# Altium footprint library XCVR_ESP32-C3-DEVKITC-02.PcbLib: 1 footprints
Each footprint in its own frame and in the unit in brackets; x right, y up, seen from the top. Pads: shape width x height; smd on the part's side, far side on the other; paste and mask are expansions set on the pad; w line width, h text height; cw(c..) or ccw(c..) is an arc to the next point about the centre after c.
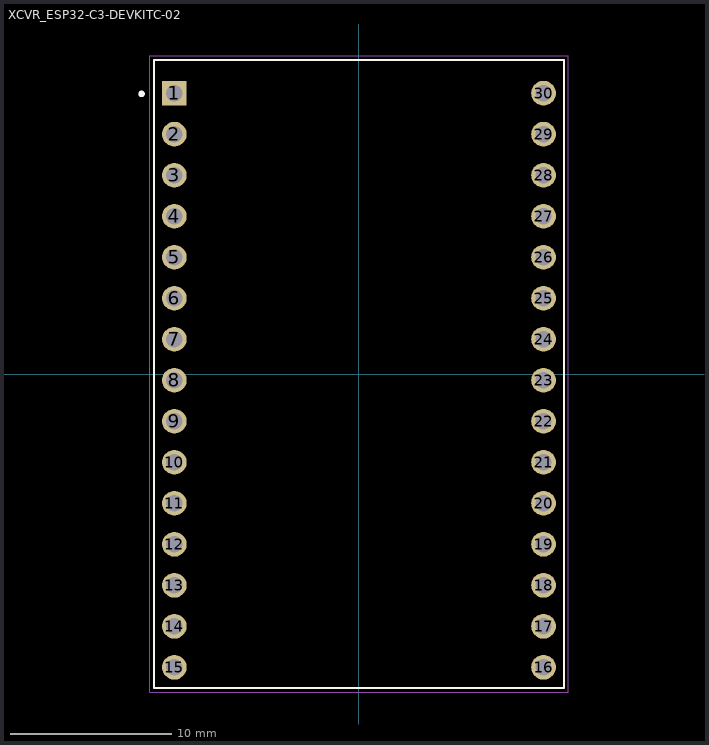
[diagram p0: the footprint, top view; thin cyan lines are the x and y axes]

## XCVR_ESP32-C3-DEVKITC-02 [mm]
pads (30):
  rect 1.53x1.53 hole 1.02: 1(-11.43,17.392)
  round 1.53 hole 1.02: 2(-11.43,14.852) 3(-11.43,12.312) 4(-11.43,9.772) 5(-11.43,7.232) 6(-11.43,4.692) 7(-11.43,2.152) 8(-11.43,-0.388) 9(-11.43,-2.928) 10(-11.43,-5.468) 11(-11.43,-8.008) 12(-11.43,-10.548) 13(-11.43,-13.088) 14(-11.43,-15.628) 15(-11.43,-18.168) 16(11.43,-18.168) 17(11.43,-15.628) 18(11.43,-13.088) 19(11.43,-10.548) 20(11.43,-8.008) 21(11.43,-5.468) 22(11.43,-2.928) 23(11.43,-0.388) 24(11.43,2.152) 25(11.43,4.692) 26(11.43,7.232) 27(11.43,9.772) 28(11.43,12.312) 29(11.43,14.852) 30(11.43,17.392)
Top Overlay:
  circle w0.2: c-13.462,17.347 r0.1
  lines w0.127: -12.7,-19.455 -12.7,19.455 12.7,19.455 12.7,-19.455 -12.7,-19.455
Mechanical 13:
  circle w0.2: c-13.462,17.347 r0.1
  lines w0.127: -12.7,-19.455 -12.7,19.455 12.7,19.455 12.7,-19.455 -12.7,-19.455
Mechanical 15:
  lines w0.05: -12.95,-19.705 -12.95,19.705 12.95,19.705 12.95,-19.705 -12.95,-19.705